# Altium footprint library 7466205R.PcbLib: 1 footprints
Each footprint in its own frame and in the unit in brackets; x right, y up, seen from the top. Pads: shape width x height; smd on the part's side, far side on the other; paste and mask are expansions set on the pad; w line width, h text height; cw(c..) or ccw(c..) is an arc to the next point about the centre after c.
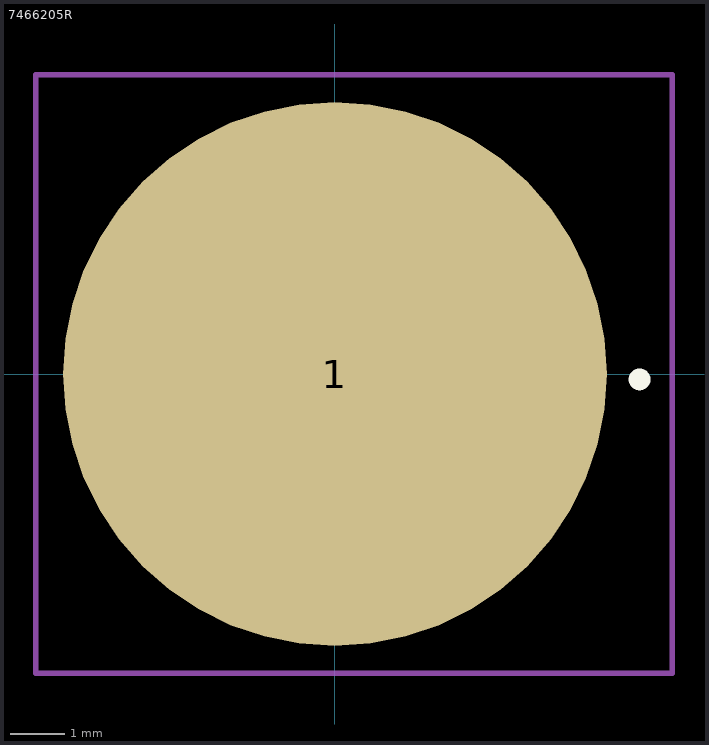
[diagram p0: the footprint, top view; thin cyan lines are the x and y axes]

## 7466205R [mm]
pads (1):
  round 10 smd: 1(0,0)
Top Overlay:
  lines w0.2: 5.6,-0.2 cw(c5.6,-0.1) 5.6,0 ; 5.6,-0.2 5.6,-0.2 ; 5.6,-0.2 ccw(c5.6,-0.1) 5.6,0 ; 5.6,0 5.6,0
Mechanical 15:
  lines w0.2: 0,-4.5 cw(c0,0) 0,4.5 ; 0,-4.5 0,-4.5 ; 0,-4.5 ccw(c0,0) 0,4.5 ; 0,4.5 0,4.5
Mechanical 20:
  lines w0.1: -5.5,-5.5 6.2,-5.5 6.2,5.5 -5.5,5.5 -5.5,-5.5